# EAGLE library part ISP1032LT (library stepper_drivers_etc)
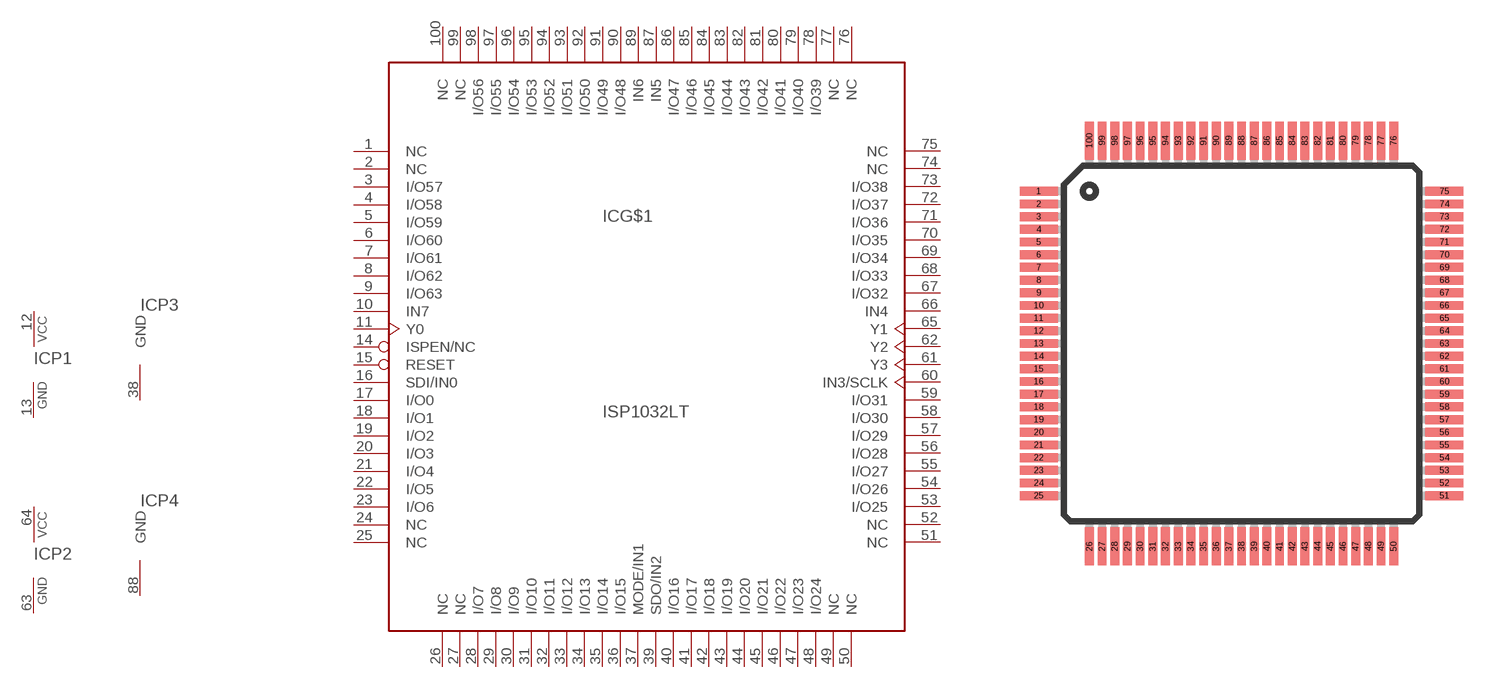
[diagram p10: symbol with the pads of TQFP100; footprint TQFP100]

Designator prefix IC; gates G$1=ISP1032L P3=PWGND P4=PWGND P1=PWRN P2=PWRN

## ISP1032LT  [TQFP100]
1  G$1:NC  nc
2  G$1:NC  nc
3  G$1:I/O57
4  G$1:I/O58
5  G$1:I/O59
6  G$1:I/O60
7  G$1:I/O61
8  G$1:I/O62
9  G$1:I/O63
10  G$1:IN7
11  G$1:Y0  in
12  P1:VCC  pwr
13  P1:GND  pwr
14  G$1:ISPEN/NC  in
15  G$1:RESET  in
16  G$1:SDI/IN0  in
17  G$1:I/O0
18  G$1:I/O1
19  G$1:I/O2
20  G$1:I/O3
21  G$1:I/O4
22  G$1:I/O5
23  G$1:I/O6
24  G$1:NC  nc
25  G$1:NC  nc
26  G$1:NC  nc
27  G$1:NC  nc
28  G$1:I/O7
29  G$1:I/O8
30  G$1:I/O9
31  G$1:I/O10
32  G$1:I/O11
33  G$1:I/O12
34  G$1:I/O13
35  G$1:I/O14
36  G$1:I/O15
37  G$1:MODE/IN1  in
38  P3:GND  pwr
39  G$1:SDO/IN2
40  G$1:I/O16
41  G$1:I/O17
42  G$1:I/O18
43  G$1:I/O19
44  G$1:I/O20
45  G$1:I/O21
46  G$1:I/O22
47  G$1:I/O23
48  G$1:I/O24
49  G$1:NC  nc
50  G$1:NC  nc
51  G$1:NC  nc
52  G$1:NC  nc
53  G$1:I/O25
54  G$1:I/O26
55  G$1:I/O27
56  G$1:I/O28
57  G$1:I/O29
58  G$1:I/O30
59  G$1:I/O31
60  G$1:IN3/SCLK  in
61  G$1:Y3  in
62  G$1:Y2  in
63  P2:GND  pwr
64  P2:VCC  pwr
65  G$1:Y1  in
66  G$1:IN4  in
67  G$1:I/O32
68  G$1:I/O33
69  G$1:I/O34
70  G$1:I/O35
71  G$1:I/O36
72  G$1:I/O37
73  G$1:I/O38
74  G$1:NC  nc
75  G$1:NC  nc
76  G$1:NC  nc
77  G$1:NC  nc
78  G$1:I/O39
79  G$1:I/O40
80  G$1:I/O41
81  G$1:I/O42
82  G$1:I/O43
83  G$1:I/O44
84  G$1:I/O45
85  G$1:I/O46
86  G$1:I/O47
87  G$1:IN5  in
88  P4:GND  pwr
89  G$1:IN6  in
90  G$1:I/O48
91  G$1:I/O49
92  G$1:I/O50
93  G$1:I/O51
94  G$1:I/O52
95  G$1:I/O53
96  G$1:I/O54
97  G$1:I/O55
98  G$1:I/O56
99  G$1:NC  nc
100  G$1:NC  nc

## Footprint TQFP100 (pad centres in mm)
Thin Quad Flat Package
smd 1.5 x 0.35: 1 -8,6; 2 -8,5.5; 3 -8,5; 4 -8,4.5; 5 -8,4; 6 -8,3.5; 7 -8,3; 8 -8,2.5; 9 -8,2; 10 -8,1.5; 11 -8,1; 12 -8,0.5; 13 -8,0; 14 -8,-0.5; 15 -8,-1; 16 -8,-1.5; 17 -8,-2; 18 -8,-2.5; 19 -8,-3; 20 -8,-3.5; 21 -8,-4; 22 -8,-4.5; 23 -8,-5; 24 -8,-5.5; 25 -8,-6; 51 8,-6; 52 8,-5.5; 53 8,-5; 54 8,-4.5; 55 8,-4; 56 8,-3.5; 57 8,-3; 58 8,-2.5; 59 8,-2; 60 8,-1.5; 61 8,-1; 62 8,-0.5; 63 8,0; 64 8,0.5; 65 8,1; 66 8,1.5; 67 8,2; 68 8,2.5; 69 8,3; 70 8,3.5; 71 8,4; 72 8,4.5; 73 8,5; 74 8,5.5; 75 8,6
smd 0.35 x 1.5: 26 -6,-8; 27 -5.5,-8; 28 -5,-8; 29 -4.5,-8; 30 -4,-8; 31 -3.5,-8; 32 -3,-8; 33 -2.5,-8; 34 -2,-8; 35 -1.5,-8; 36 -1,-8; 37 -0.5,-8; 38 0,-8; 39 0.5,-8; 40 1,-8; 41 1.5,-8; 42 2,-8; 43 2.5,-8; 44 3,-8; 45 3.5,-8; 46 4,-8; 47 4.5,-8; 48 5,-8; 49 5.5,-8; 50 6,-8; 76 6,8; 77 5.5,8; 78 5,8; 79 4.5,8; 80 4,8; 81 3.5,8; 82 3,8; 83 2.5,8; 84 2,8; 85 1.5,8; 86 1,8; 87 0.5,8; 88 0,8; 89 -0.5,8; 90 -1,8; 91 -1.5,8; 92 -2,8; 93 -2.5,8; 94 -3,8; 95 -3.5,8; 96 -4,8; 97 -4.5,8; 98 -5,8; 99 -5.5,8; 100 -6,8